# EAGLE library part IC_SPDT_ANALOG_SW_TI_SN74LVC1G3157DBVR (library WCSMain)
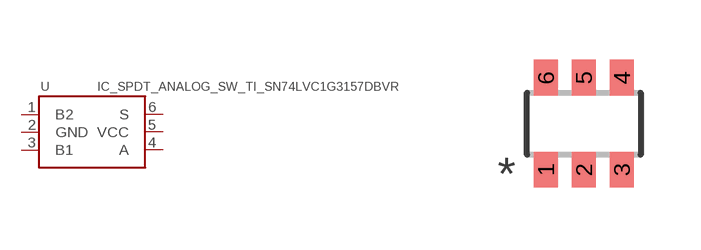
[diagram p24: symbol with the pads of SOT23-6; footprint SOT23-6]

Designator prefix -

## IC_SPDT_ANALOG_SW_TI_SN74LVC1G3157DBVR  [SOT23-6]
1  B2
2  GND  pwr
3  B1
4  A
5  VCC  pwr
6  S  in

## Footprint SOT23-6 (pad centres in mm)
Small Outline Transistor 6 lead
smd 0.6 x 0.9: 1 -0.95,-1.15; 2 0,-1.15; 3 0.95,-1.15; 4 0.95,1.15; 5 0,1.15; 6 -0.95,1.15